# Altium footprint library RES.PcbLib: 26 footprints (part 2 of 2)
Each footprint in its own frame and in the unit in brackets; x right, y up, seen from the top. Pads: shape width x height; smd on the part's side, far side on the other; paste and mask are expansions set on the pad; w line width, h text height; cw(c..) or ccw(c..) is an arc to the next point about the centre after c.
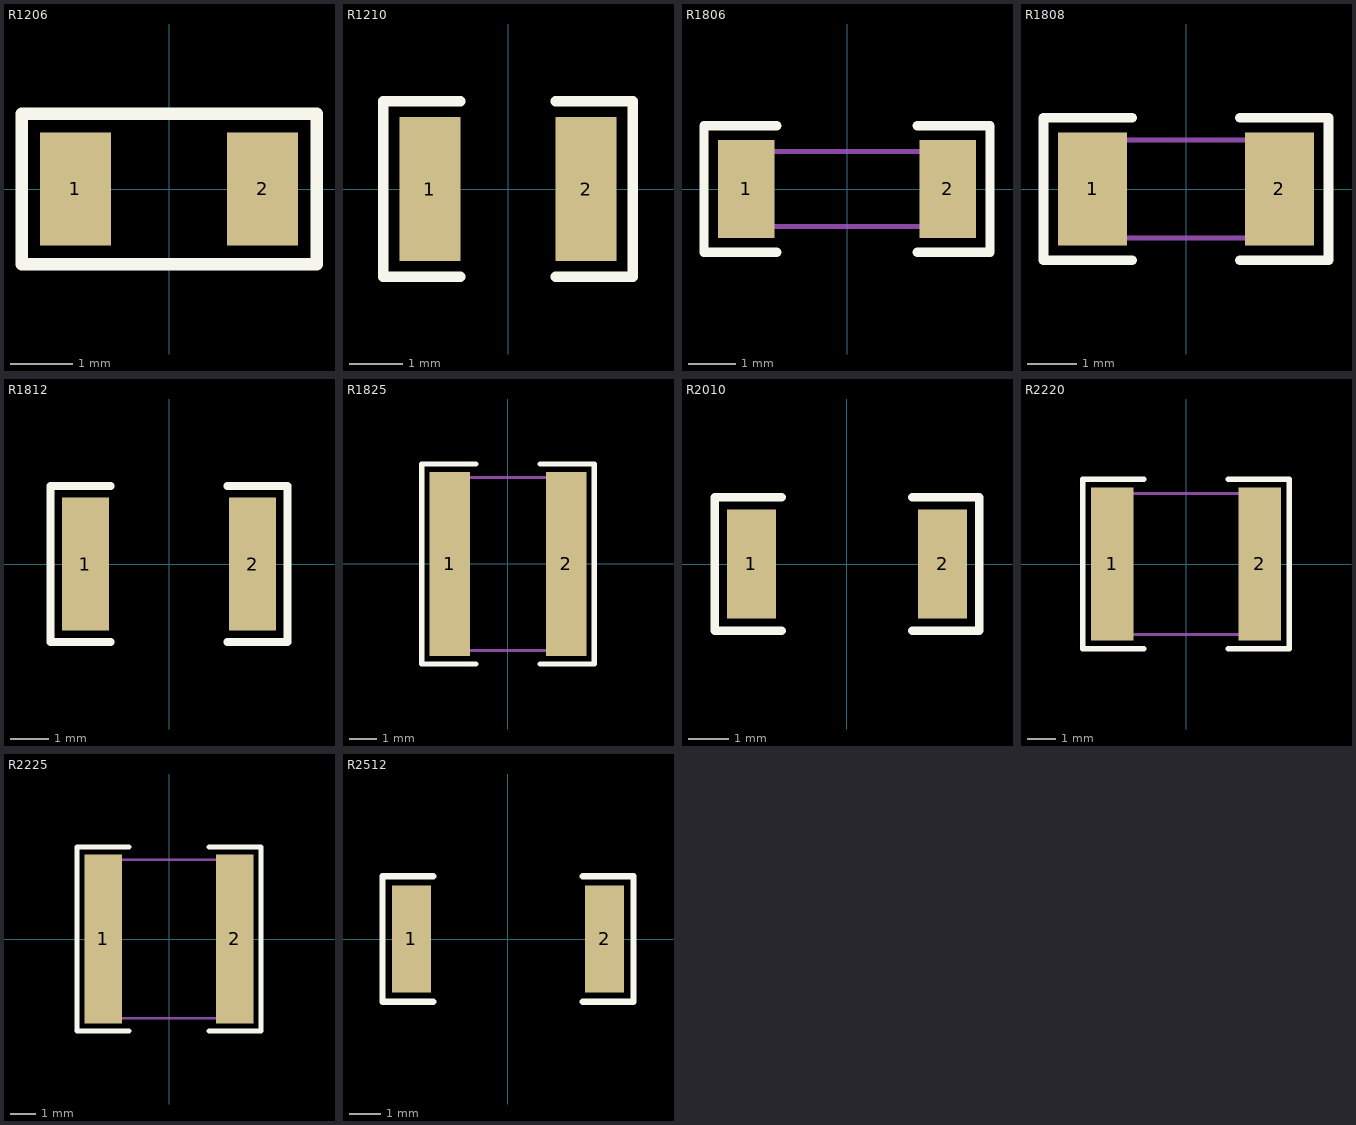
[diagram p1: the footprints below, top view; thin cyan lines are the x and y axes]

## R1206 [mm]
pads (2):
  rect 1.13x1.8 smd: 1(-1.49,0) 2(1.49,0)
Top Overlay:
  lines w0.2: 1,-1.2 2.355,-1.2 2.355,1.175 ; 1,1.2 2.355,1.2 ; 1.43,-1.2 -2.345,-1.2 -2.345,1.2 1.705,1.2
3D body "1206.STEP": height 0.61, standoff 0, extent -1.519,-0.775 1.529,0.754

## R1210 [mm]
pads (2):
  rect 1.16x2.72 smd: 1(-1.475,0) 2(1.475,0)
Top Overlay:
  lines w0.2: -0.9,-1.66 -2.355,-1.66 -2.355,1.66 -0.9,1.66 ; 0.9,-1.66 2.355,-1.66 2.355,1.66 0.9,1.66
3D body "User Library-R_1210.STEP": height 0.6, standoff 0, extent -1.6,-1.25 1.6,1.25

## R1806 [mm]
pads (2):
  rect 1.2x2.1 smd: 1(-2.15,0) 2(2.15,0)
Top Overlay:
  lines w0.2: -1.5,-1.35 -3.05,-1.35 -3.05,1.35 -1.5,1.35 ; 1.5,-1.35 3.05,-1.35 3.05,1.35 1.5,1.35
Mechanical 13:
  lines w0.1: -2.25,-0.8 -2.25,0.8 2.25,0.8 2.25,-0.8 -2.25,-0.8

## R1808 [mm]
pads (2):
  rect 1.4x2.3 smd: 1(-1.9,0) 2(1.9,0)
Top Overlay:
  lines w0.2: -1.1,-1.45 -2.9,-1.45 -2.9,1.45 -1.1,1.45 ; 1.1,-1.45 2.9,-1.45 2.9,1.45 1.1,1.45
Mechanical 13:
  lines w0.1: -2.25,-1 -2.25,1 2.25,1 2.25,-1 -2.25,-1

## R1812 [mm]
pads (2):
  rect 1.2x3.42 smd: 1(-2.15,0) 2(2.15,0)
Top Overlay:
  lines w0.2: -1.5,-2.01 -3.05,-2.01 -3.05,2.01 -1.5,2.01 ; 1.5,-2.01 3.05,-2.01 3.05,2.01 1.5,2.01
3D body "R1812.STEP": height 0.59, standoff -0.01, extent -2.251,-1.6 2.249,1.6

## R1825 [mm]
pads (2):
  rect 1.5x6.81 smd: 1(-2.15,0) 2(2.15,0)
Top Overlay:
  lines w0.2: -1.2,-3.705 -3.2,-3.705 -3.2,3.705 -1.2,3.705 ; 1.2,-3.705 3.2,-3.705 3.2,3.705 1.2,3.705
Mechanical 13:
  lines w0.1: -2.3,-3.2 2.3,-3.2 2.3,3.2 -2.3,3.2 -2.3,-3.2

## R2010 [mm]
pads (2):
  rect 1.2x2.67 smd: 1(-2.34,0) 2(2.34,0)
Top Overlay:
  lines w0.2: -1.6,-1.635 -3.24,-1.635 -3.24,1.635 -1.6,1.635 ; 1.6,-1.635 3.24,-1.635 3.24,1.635 1.6,1.635
3D body "User Library-R_2010.STEP": height 0.6, standoff 0, extent -2.5,-1.25 2.5,1.25

## R2220 [mm]
pads (2):
  rect 1.5x5.42 smd: 1(-2.62,0) 2(2.62,0)
Top Overlay:
  lines w0.2: -1.5,-3.01 -3.67,-3.01 -3.67,3.01 -1.5,3.01 ; 1.5,-3.01 3.67,-3.01 3.67,3.01 1.5,3.01
Mechanical 13:
  lines w0.1: -2.9,-2.5 -2.9,2.5 2.9,2.5 2.9,-2.5 -2.9,-2.5

## R2225 [mm]
pads (2):
  rect 1.5x6.72 smd: 1(-2.62,0) 2(2.62,0)
Top Overlay:
  lines w0.2: -1.6,-3.66 -3.67,-3.66 -3.67,3.66 -1.6,3.66 ; 1.6,-3.66 3.67,-3.66 3.67,3.66 1.6,3.66
Mechanical 13:
  lines w0.1: -2.85,-3.15 -2.85,3.15 2.85,3.15 2.85,-3.15 -2.85,-3.15

## R2512 [mm]
pads (2):
  rect 1.25x3.42 smd: 1(-3.1,0) 2(3.1,0)
Top Overlay:
  lines w0.2: -2.4,-2.01 -4.025,-2.01 -4.025,2.01 -2.4,2.01 ; 2.4,-2.01 4.025,-2.01 4.025,2.01 2.4,2.01
3D body "User Library-res2512_body.STEP": height 0.62, standoff 0, extent -3.159,-1.6 3.16,1.6